# EAGLE library part ISL55111 (library FSAE Eletric)
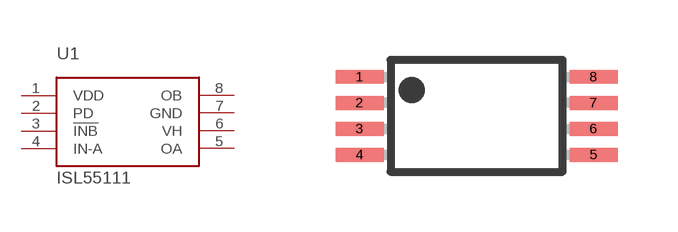
[diagram p28: symbol with the pads of TSSOP-8; footprint TSSOP-8]

Designator prefix U1

## ISL55111  [TSSOP-8]
1  VDD
2  PD
3  !INB
4  IN-A
5  OA
6  VH
7  GND
8  OB

## Footprint TSSOP-8 (pad centres in mm)
smd 1.2 x 0.35: 1 -2.925,0.975; 2 -2.925,0.325; 3 -2.925,-0.325; 4 -2.925,-0.975; 5 2.925,-0.975; 6 2.925,-0.325; 7 2.925,0.325; 8 2.925,0.975